# Altium footprint library PWQFN-N100-DUAL-ROW.PcbLib: 1 footprints
Each footprint in its own frame and in the unit in brackets; x right, y up, seen from the top. Pads: shape width x height; smd on the part's side, far side on the other; paste and mask are expansions set on the pad; w line width, h text height; cw(c..) or ccw(c..) is an arc to the next point about the centre after c.
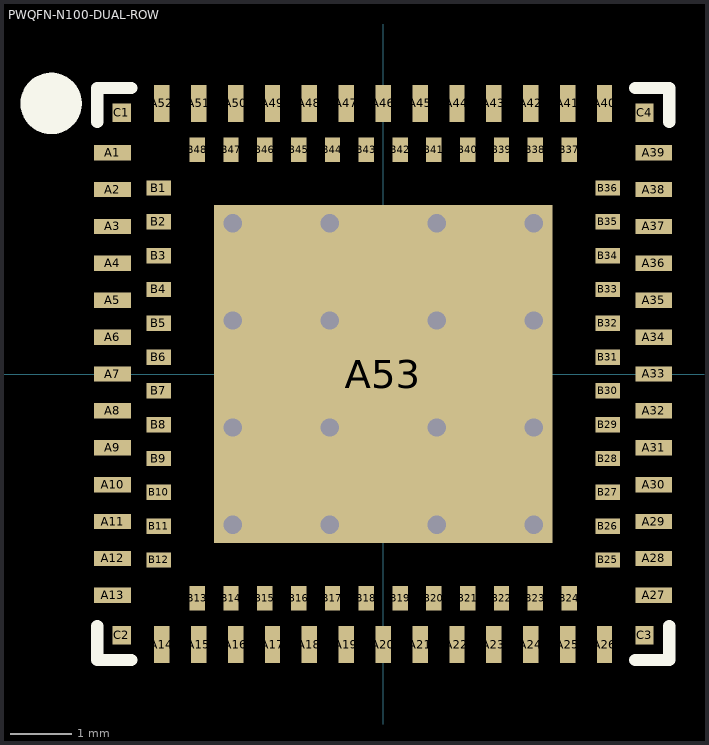
[diagram p0: the footprint, top view; thin cyan lines are the x and y axes]

## PWQFN-N100-DUAL-ROW [mm]
pads (105):
  rect 0.6x0.25 smd mask+0.05: A1(-4.4,3.6) A2(-4.4,3) A3(-4.4,2.4) A4(-4.4,1.8) A5(-4.4,1.2) A6(-4.4,0.6) A7(-4.4,0) A8(-4.4,-0.6) A9(-4.4,-1.2) A10(-4.4,-1.8) A11(-4.4,-2.4) A12(-4.4,-3) A13(-4.4,-3.6) A27(4.4,-3.6) A28(4.4,-3) A29(4.4,-2.4) A30(4.4,-1.8) A31(4.4,-1.2) A32(4.4,-0.6) A33(4.4,0) A34(4.4,0.6) A35(4.4,1.2) A36(4.4,1.8) A37(4.4,2.4) A38(4.4,3) A39(4.4,3.6)
  rect 0.25x0.6 smd mask+0.05: A14(-3.6,-4.4) A15(-3,-4.4) A16(-2.4,-4.4) A17(-1.8,-4.4) A18(-1.2,-4.4) A19(-0.6,-4.4) A20(0,-4.4) A21(0.6,-4.4) A22(1.2,-4.4) A23(1.8,-4.4) A24(2.4,-4.4) A25(3,-4.4) A26(3.6,-4.4) A40(3.6,4.4) A41(3,4.4) A42(2.4,4.4) A43(1.8,4.4) A44(1.2,4.4) A45(0.6,4.4) A46(0,4.4) A47(-0.6,4.4) A48(-1.2,4.4) A49(-1.8,4.4) A50(-2.4,4.4) A51(-3,4.4) A52(-3.6,4.4)
  rect 5.5x5.5 smd: A53(0,0)
  rect 0.4x0.25 smd mask+0.05: B1(-3.65,3.025) B2(-3.65,2.475) B3(-3.65,1.925) B4(-3.65,1.375) B5(-3.65,0.825) B6(-3.65,0.275) B7(-3.65,-0.275) B8(-3.65,-0.825) B9(-3.65,-1.375) B10(-3.65,-1.925) B11(-3.65,-2.475) B12(-3.65,-3.025) B25(3.65,-3.025) B26(3.65,-2.475) B27(3.65,-1.925) B28(3.65,-1.375) B29(3.65,-0.825) B30(3.65,-0.275) B31(3.65,0.275) B32(3.65,0.825) B33(3.65,1.375) B34(3.65,1.925) B35(3.65,2.475) B36(3.65,3.025)
  rect 0.25x0.4 smd mask+0.05: B13(-3.025,-3.65) B14(-2.475,-3.65) B15(-1.925,-3.65) B16(-1.375,-3.65) B17(-0.825,-3.65) B18(-0.275,-3.65) B19(0.275,-3.65) B20(0.825,-3.65) B21(1.375,-3.65) B22(1.925,-3.65) B23(2.475,-3.65) B24(3.025,-3.65) B37(3.025,3.65) B38(2.475,3.65) B39(1.925,3.65) B40(1.375,3.65) B41(0.825,3.65) B42(0.275,3.65) B43(-0.275,3.65) B44(-0.825,3.65) B45(-1.375,3.65) B46(-1.925,3.65) B47(-2.475,3.65) B48(-3.025,3.65)
  rect 0.3x0.3 smd mask+0.05: C1(-4.25,4.25) C2(-4.25,-4.25) C3(4.25,-4.25) C4(4.25,4.25)
via -2.45,0.87 diameter 0.6 hole 0.3
via -2.45,-0.87 diameter 0.6 hole 0.3
via 2.45,0.87 diameter 0.6 hole 0.3
via 2.45,-0.87 diameter 0.6 hole 0.3
via -0.87,0.87 diameter 0.6 hole 0.3
via -0.87,-0.87 diameter 0.6 hole 0.3
via 0.87,-0.87 diameter 0.6 hole 0.3
via 0.87,0.87 diameter 0.6 hole 0.3
via -0.87,-2.45 diameter 0.6 hole 0.3
via 0.87,-2.45 diameter 0.6 hole 0.3
via 0.87,2.45 diameter 0.6 hole 0.3
via -0.87,2.45 diameter 0.6 hole 0.3
via -2.45,2.45 diameter 0.6 hole 0.3
via -2.45,-2.45 diameter 0.6 hole 0.3
via 2.45,-2.45 diameter 0.6 hole 0.3
via 2.45,2.45 diameter 0.6 hole 0.3
Top Overlay:
  circle w0.5: c-5.4,4.4 r0.25
  lines w0.2: -4.65,-4.1 -4.65,-4.65 -4.1,-4.65 ; -4.65,4.1 -4.65,4.65 -4.1,4.65 ; 4.1,-4.65 4.65,-4.65 4.65,-4.1 ; 4.1,4.65 4.65,4.65 4.65,4.1
3D body: height 0.75, standoff 0, extent -4.5,-4.5 4.5,4.5